# Altium footprint library PowerMeter.PcbLib: 25 footprints (part 2 of 2)
Each footprint in its own frame and in the unit in brackets; x right, y up, seen from the top. Pads: shape width x height; smd on the part's side, far side on the other; paste and mask are expansions set on the pad; w line width, h text height; cw(c..) or ccw(c..) is an arc to the next point about the centre after c.
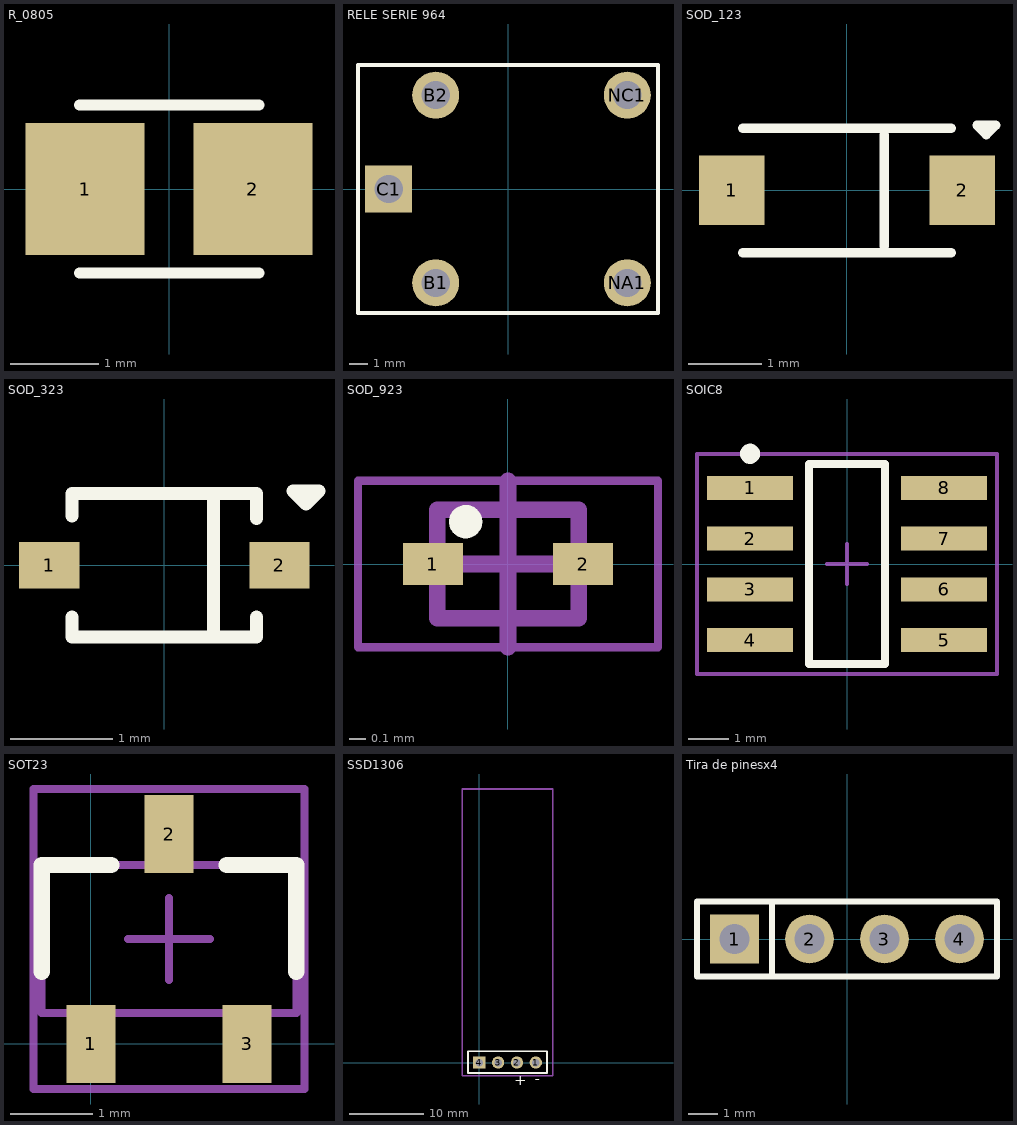
[diagram p1: the footprints below, top view; thin cyan lines are the x and y axes]

## R_0805 [mm] "Chip Resistor, 2-Leads, Body 2.00x1.25mm, IPC Low Density"
height 0.65
pads (2):
  rect 1.35x1.5 smd: 1(-0.95,0) 2(0.95,0)
Top Overlay:
  lines w0.127: -1.016,-0.953 1.016,-0.953 ; -1.016,0.953 1.016,0.953
3D body "User Library-CR2012-0805.STEP": height 0.6, standoff 0, extent -1,-0.625 1,0.625

## RELE SERIE 964 [mm]
pads (5):
  round 2.5 hole 1.5: B1(-3.85,-5) B2(-3.85,5) NA1(6.35,-5) NC1(6.35,5)
  rect 2.5x2.5 hole 1.5: C1(-6.35,0)
Top Overlay:
  lines w0.2: -7.985,-6.604 -7.985,6.604 7.985,6.604 7.985,-6.604 -7.985,-6.604
3D body "User Library-T74 4181.STEP": height 13.66, standoff -3.94, extent -7.85,-6.096 7.85,6.204

## SOD_123 [mm]
pads (2):
  rect 0.9x0.95 smd: 1(-1.575,0) 2(1.575,0)
Top Overlay:
  lines w0.127: -1.425,-0.85 1.425,-0.85 ; -1.425,0.85 1.425,0.85 ; 0.508,-0.762 0.508,0.762 ; 1.778,0.889 2.032,0.889 1.905,0.762 1.778,0.889
3D body "User Library-SOD-123_DiodesInc.STEP": height 1.46, standoff 0.01, extent -1.925,-0.85 1.925,0.85

## SOD_323 [mm]
pads (2):
  rect 0.59x0.45 smd: 1(-1.125,0) 2(1.125,0)
Top Overlay:
  lines w0.127: -0.9,-0.508 -0.9,-0.7 0.9,-0.7 0.9,-0.508 ; -0.9,0.483 -0.9,0.7 0.9,0.7 0.9,0.457 ; 0.483,-0.7 0.483,0.686 ; 1.257,0.724 1.384,0.597 1.511,0.724 1.257,0.724
3D body "User Library-SOD323.STEP": height 0.9, standoff -0.09, extent -1.275,-0.625 1.225,0.625

## SOD_923 [mm] "SODFL, 2-Leads, Body 0,60x1,00mm, IPC Medium Density"
height 0.4
pads (2):
  rect 0.36x0.25 smd: 1(-0.45,0) 2(0.45,0)
Top Overlay:
  circle w0.1: c-0.254,0.254 r0.05
Mechanical 13:
  lines w0.1: -0.425,-0.325 0.425,-0.325 0.425,0.325 -0.425,0.325 -0.425,-0.325
Mechanical 15:
  lines w0.05: -0.9,-0.5 0.9,-0.5 0.9,0.5 -0.9,0.5 -0.9,-0.5
  lines w0.1: -0.5,0 0.5,0 ; 0,-0.5 0,0.5
3D body "SODFL100X40-2N.step": height 0.4, standoff 0, extent -0.5,-0.325 0.5,0.325

## SOIC8 [mm]
height 1.75
pads (8):
  rect 2.15x0.6 smd: 1(-2.425,1.905) 2(-2.425,0.635) 3(-2.425,-0.635) 4(-2.425,-1.905) 5(2.425,-1.905) 6(2.425,-0.635) 7(2.425,0.635) 8(2.425,1.905)
Top Overlay:
  circle w0.254: c-2.425,2.755 r0.125
  lines w0.2: -0.95,-2.5 -0.95,2.5 0.95,2.5 0.95,-2.5 -0.95,-2.5
Mechanical 15:
  lines w0.1: -0.5,0 0.5,0 ; 0,-0.5 0,0.5 ; -3.75,-2.75 -3.75,2.75 3.75,2.75 3.75,-2.75 -3.75,-2.75
3D body "SO8.STEP": height 1.75, standoff 0, extent -3.006,-2.515 3.006,2.485

## SOT23 [mm]
pads (3):
  rect 0.6x0.95 smd: 1(0,0) 2(0.95,2.55) 3(1.9,0)
Top Overlay:
  lines w0.2: -0.6,0.875 -0.6,2.175 0.25,2.175 ; 1.65,2.175 2.5,2.175 2.5,0.875
Mechanical 13:
  lines w0.1: -0.6,0.375 -0.6,2.175 2.5,2.175 2.5,0.375 -0.6,0.375
Mechanical 15:
  lines w0.1: 0.45,1.275 1.45,1.275 ; 0.95,0.775 0.95,1.775 ; -0.7,-0.55 -0.7,3.1 2.6,3.1 2.6,-0.55 -0.7,-0.55
3D body "SOT23_3.step": height 1, standoff -0.1, extent -0.533,-0.254 2.467,2.884

## SSD1306 [mil] "Display OLED, I2C"
pads (4):
  round 65 hole 40: 1(300,0) 2(200,0) 3(100,0)
  rect 65x65 hole 40: 4(0,0)
Top Overlay:
  lines w10: -60,-55 360,-55 360,60 -60,60 -60,-55
  text "-" at 295,-134.24 h100
  text "+" at 185,-140.36 h100
Mechanical 15:
  lines w10: -90,-70 390,-70 390,1450 -90,1450 -90,-70
  text "Display I2C" at 165.01,505 h60
3D body "female rounded header.stp": height 170, standoff -122.52, extent -50,-50 350,50

## Tira de pinesx4 [mil] "Tira de pines x4"
pads (4):
  rect 65x65 hole 40: 1(-150,0)
  round 65 hole 40: 2(-50,0) 3(50,0) 4(150,0)
Top Overlay:
  lines w7.87: -100,-50 -100,50 ; -200,-50 200,-50 200,50 -200,50 -200,-50
3D body "SIP4.step": height 330, standoff -100, extent -200,-50 200,50